# EAGLE library part 1ZW0913611806 (library rezzonics)
MEC Control MEC 1ZW Non-illuminated module 1ZW0913611806 + 4x 5ETH935 + 1x 5GTH920 CAP TACTILE ROUND BLACK + 5x SWITCH TACTILE SPST-NO 0.05A 24V
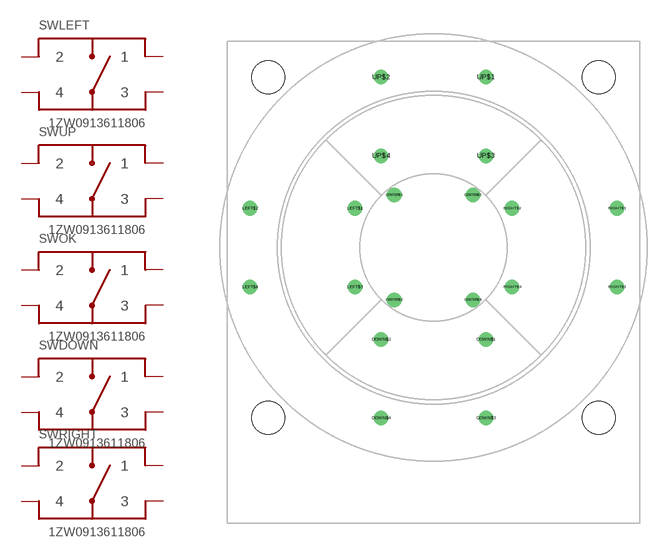
[diagram p18: symbol with the pads of 1ZW0913611806; footprint 1ZW0913611806]

Designator prefix SW; gates OK=5GTH9 UP=5GTH9 DOWN=5GTH9 LEFT=5GTH9 RIGHT=5GTH9

## 1ZW0913611806  [1ZW0913611806]
CENTER$1  OK:1  pas
CENTER$2  OK:2  pas
CENTER$3  OK:3  pas
CENTER$4  OK:4  pas
DOWN$1  DOWN:1  pas
DOWN$2  DOWN:2  pas
DOWN$3  DOWN:3  pas
DOWN$4  DOWN:4  pas
LEFT$1  LEFT:1  pas
LEFT$2  LEFT:2  pas
LEFT$3  LEFT:3  pas
LEFT$4  LEFT:4  pas
RIGHT$1  RIGHT:1  pas
RIGHT$2  RIGHT:2  pas
RIGHT$3  RIGHT:3  pas
RIGHT$4  RIGHT:4  pas
UP$1  UP:1  pas
UP$2  UP:2  pas
UP$3  UP:3  pas
UP$4  UP:4  pas

## Footprint 1ZW0913611806 (pad centres in mm)
drill 0.9: CENTER$1 -3.81,5.08; CENTER$2 -3.81,-5.08; CENTER$3 3.81,5.08; CENTER$4 3.81,-5.08; DOWN$1 5.08,-8.89; DOWN$2 -5.08,-8.89; DOWN$3 5.08,-16.51; DOWN$4 -5.08,-16.51; LEFT$1 -7.62,3.81; LEFT$2 -17.78,3.81; LEFT$3 -7.62,-3.81; LEFT$4 -17.78,-3.81; RIGHT$1 17.78,3.81; RIGHT$2 7.62,3.81; RIGHT$3 17.78,-3.81; RIGHT$4 7.62,-3.81; UP$1 5.08,16.51; UP$2 -5.08,16.51; UP$3 5.08,8.89; UP$4 -5.08,8.89
hole 3.2 at 16,16.5
hole 3.2 at -16,16.5
hole 3.2 at 16,-16.5
hole 3.2 at -16,-16.5